# Altium integrated library Linear Technology PMIC-Switching Reg LTC1174-LTC3901.IntLib: 2647 symbols (part 223 of 310)
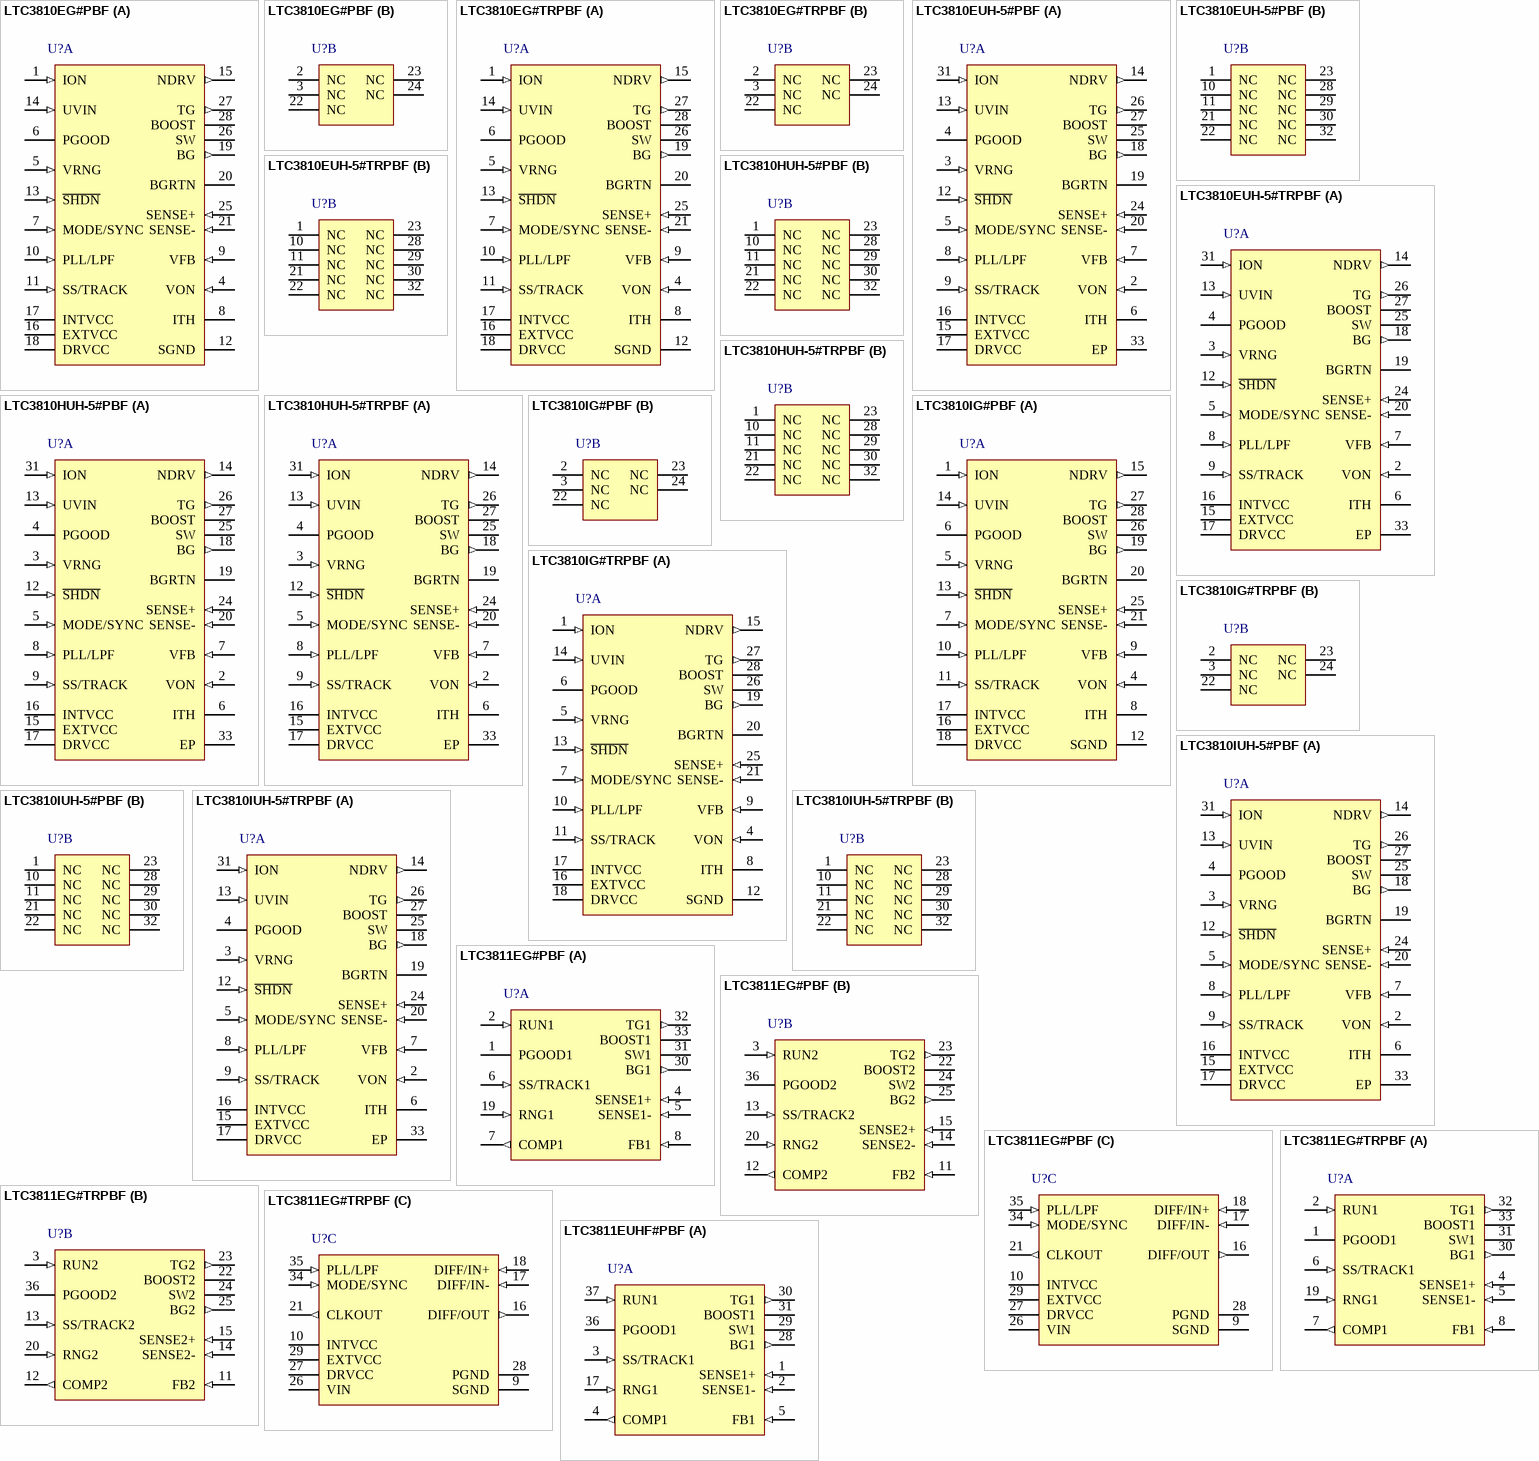
[diagram p246: symbols LTC3810EG#PBF to LTC3811EUHF#PBF]

## LTC3810IUH-5#TRPBF
designator U?
Current Mode Synchronous Switching Regulator Controller, 32-pin QFN (UH-32), -40 to 125 degC, Pb-Free, Tape and Reel; Manufacturer: Linear Technology; PartNumber: LTC3810IUH-5#TRPBF; Number of Outputs: 1; PackageReference: UH-32; PackageDescription: 32-Pin Plastic QFN, Body 5 x 5 mm, Pitch 0.5 mm; Supplier 1: Digi-Key; Supplier Part Number 1: LTC3810IUH-5#TRPBF-ND; RoHS: TRUE; Code_JEDEC: MO-220
footprint LT-UH-32_N (QFN, 32-Leads, Body 5.1x5.1mm, Pitch 0.5mm, Thermal Pad 3.45X3.45mm, IPC Medium Density)
footprint LT-UH-32_L (QFN, 32-Leads, Body 5.1x5.1mm, Pitch 0.5mm, Thermal Pad 3.45X3.45mm, IPC High Density)
footprint LT-UH-32_M (QFN, 32-Leads, Body 5.1x5.1mm, Pitch 0.5mm, Thermal Pad 3.45X3.45mm, IPC Low Density)
part A pins: 2 VON (in) "On-Time Voltage Input. Voltage trip point for the on-time comparator. Tying this pin to the output voltage or to an external resistive divider from the output makes the on-time proportional to VOUT. The comparator defaults (See Datasheet)", 3 VRNG (in) "Sense Voltage Limit Set. The voltage at this pin sets the nominal sense voltage at maximum output current and can be set from 0.5V to 2V by a resistive divider from INTVCC. The nominal sense voltage defaults to 95mV when (See Datasheet)", 4 PGOOD (oc) "Power Good Output. Open-drain logic output that is pulled to ground when the output voltage is not between +/-10% of the regulation point. The output voltage must be out of regulation for at least 120us before the power good (See Datasheet)", 5 MODE/SYNC (in) "Pulse Skip Mode Enable/Sync Pin. This multifunction pin provides pulse skip mode enable/ disable control and an external clock input to the phase detector. Pulling this pin below 0.8V or to an external logic-level (See Datasheet)", 6 ITH "Error Amplifier Compensation Point and Current Control Threshold. The current comparator threshold increases with this control voltage. The voltage ranges from 0V to 2.6V with 1.2V corresponding to zero sense voltage (zero (See Datasheet)", 7 VFB (in) "Feedback Input. Connect VFB through a resistor divider network to VOUT to set the output voltage.", 8 PLL/LPF (in) "The phase-locked loop’s lowpass filter is tied to this pin. The voltage at this pin defaults to 1.2V when the IC is not synchronized with an external clock at the MODE/SYNC pin.", 9 SS/TRACK (in) "Soft-Start/Tracking Input. For soft-start, a capacitor to ground at this pin sets the ramp rate of the output voltage (approximately 0.6s/uF). For coincident or ratiometric tracking, connect this pin to a resistive divider (See Datasheet)", 12 ~{SHDN} (in) "Shutdown Pin. Pulling this pin below 1.5V will shut down the LTC3810-5, turn off both of the external MOSFET switches and reduce the quiescent supply current to 240uA.", 13 UVIN (in) "UVLO Input. This pin is input to the internal UVLO and is compared to an internal 0.8V reference. An external resistor divider is connected to this pin and the input supply to program the undervoltage lockout voltage. When (See Datasheet)", 14 NDRV (out) "Drive Output for External Pass Device of the Linear Regulator for INTVCC. Connect to the gate of an external NMOS pass device and a pull-up resistor to the input voltage VIN.", 15 EXTVCC (power) "External Driver Supply Voltage. When this voltage exceeds 4.7V, an internal switch connects this pin to INTVCC through an LDO and turns off the exter nal MOSFET connected to NDRV, so that controller and gate drive are drawn (See Datasheet)", 16 INTVCC (power) "Main Supply Pin. All internal circuits except the output drivers are powered from this pin. INTVCC should be bypassed to ground (Pin 10) with at least a 0.1uF capacitor in close proximity to the LTC3810-5.", 17 DRVCC (power) "Driver Supply Pin. DRVCC supplies power to the BG output driver. This pin is normally connected to INTVCC. DRVCC should be bypassed to BGRTN (Pin 20) with a low ESR (X5R or better) 1uF-10uF capacitor in close proximity to (See Datasheet)", 18 BG (out) "Bottom Gate Drive. The BG pin drives the gate of the bottom N-channel synchronous switch MOSFET. This pin swings from BGRTN to DRVCC", 19 BGRTN "Bottom Gate Return. This pin connects to the source of the pulldown MOSFET in the BG driver and is normally connected to ground. Connecting a negative supply to this pin allows the synchronous MOSFET’s gate to be pulle(See Datasheet)", 20 SENSE- (in) "Current Sense Comparator Input. The (+) input to the current comparator is normally connected to SW unless using a sense resistor. The (-) input is used to accurately kelvin sense the bottom side of the sense resistor or (See Datasheet)", 24 SENSE+ (in) "Current Sense Comparator Input. The (+) input to the current comparator is normally connected to SW unless using a sense resistor. The (-) input is used to accurately kelvin sense the bottom side of the sense resistor or (See Datasheet)", 25 SW "Switch Node Connection to Inductor and Bootstrap Capacitor. The voltage swing at this pin is -0.7V (a Schottky diode (external) voltage drop) to VIN.", 26 TG (out) "Top Gate Drive. The TG pin drives the gate of the top N-channel synchronous switch MOSFET. The TG driver draws power from the BOOST pin and returns to the SW pin, providing true floating drive to the top MOSFET.", 27 BOOST "Top Gate Driver Supply. The BOOST pin supplies power to the floating TG driver. BOOST should be bypassed to SW with a low ESR (X5R or better) 0.1uF capacitor. An additional fast recovery Schottky diode from DRVCC to the (See Datasheet)", 31 ION (in) "On-Time Current Input. Tie a resistor from VIN to this pin to set the one-shot timer current and thereby set the switching frequency.", 33 EP (power) "Signal Ground. All smallsignal components should connect to this ground and eventually connect to PGND at one point."
part B pins: 1 NC, 10 NC, 11 NC, 21 NC, 22 NC, 23 NC, 28 NC, 29 NC, 30 NC, 32 NC

## LTC3811EG#PBF
designator U?
High Speed Dual, Multiphase Step-Down DC/DC Controller, 36-pin SOP (G-36), -40 to 85 degC, Pb-Free; Manufacturer: Linear Technology; PartNumber: LTC3811EG#PBF; Number of Outputs: 2; PackageReference: G-36; PackageDescription: 36-Pin Plastic SSOP, Body 12.8 x 5.3 mm, Pitch 0.65 mm; Supplier 1: Digi-Key; Supplier Part Number 1: LTC3811EG#PBF-ND; RoHS: TRUE
footprint LT-G-36_N (SOP, 36-Leads, Body 13.1x5.6mm, Pitch 0.65mm, IPC Medium Density)
footprint LT-G-36_L (SOP, 36-Leads, Body 13.1x5.6mm, Pitch 0.65mm, IPC High Density)
footprint LT-G-36_M (SOP, 36-Leads, Body 13.1x5.6mm, Pitch 0.65mm, IPC Low Density)
part A pins: 1 PGOOD1 (oc) "An Open-Drain NMOS Power Good Output. This output turns on, pulling down the PGOOD pin, when the FB voltage falls out of a +/-10% regulation window. The PGOOD monitor circuit contains a 130us nuisance filter to prevent short (See Datasheet)", 2 RUN1 (in) "On/Off Input Pin for Each Controller", 4 SENSE1+ (in) "Positive Inputs to the Current Comparators and Voltage Positioning gm Amplifier. The COMP pin voltage programs the current comparator offset in order to set the peak current trip threshold. The LTC3811 is capable of sensing (See Datasheet)", 5 SENSE1- (in) "Negative Inputs to the Current Comparators and Voltage Positioning gm Amplifier. The common mode input voltage range for the current comparators is 0V to 3.5V", 6 SS/TRACK1 (in) "Combined Soft-Start and Tracking Inputs. For soft-start operation, connecting a capacitor from this pin to ground will control the voltage ramp at the output of the power supply. An internal 2.5uA current source will charge (See Datasheet)", 7 COMP1 (out) "Error Amplifier Output Voltages. The error amplifiers in the LTC3811 are high bandwidth, low offset true operational amplifiers that have low output impedance. As a result, the outputs of two active error amplifiers cannot (See Datasheet)", 8 FB1 (in) "Error Amplifier Feedback Input Pins. The error amplifiers in the LTC3811 are high bandwidth, low offset true operational amplifiers. If differential remote sensing is not used, the FB pin should be connected to a resistor (See Datasheet)", 19 RNG1 (in) "The voltage at this pin programs the sense voltage range for peak current mode control. Connecting this pin to SGND programs a peak sense voltage of 24mV and connecting it to INTVCC programs a peak sense voltage   of 50mV. (See Datasheet)", 30 BG1 (out) "High Current Gate Driver Outputs for the N-Channel Lower Power MOSFETs", 31 SW1 "Bootstrapped Supply Return Paths for the Topside Gate Drivers, Connected to the Sources of the Upper Power MOSFETs.", 32 TG1 (out) "High Current Gate Driver Outputs for the N-Channel Upper Power MOSFETs.", 33 BOOST1 "Bootstrapped Supply Inputs to the Topside Floating Drivers. A low ESR (X5R or better) ceramic bypass capacitor should be connected between the BOOST pin and the SW pin as close as possible to the IC."
part B pins: 3 RUN2 (in) "On/Off Input Pin for Each Controller", 11 FB2 (in) "Error Amplifier Feedback Input Pins. The error amplifiers in the LTC3811 are high bandwidth, low offset true operational amplifiers. If differential remote sensing is not used, the FB pin should be connected to a resistor (See Datasheet)", 12 COMP2 (out) "Error Amplifier Output Voltages. The error amplifiers in the LTC3811 are high bandwidth, low offset true operational Amplifiers that have low output impedance. As a result, the outputs of two active error amplifiers cannot (See Datasheet)", 13 SS/TRACK2 (in) "Combined Soft-Start and Tracking Inputs. For soft-start operation, connecting a capacitor from this pin to ground will control the voltage ramp at the output of the power supply. An internal 2.5uA current source will charge (See Datasheet)", 14 SENSE2- (in) "Negative Inputs to the Current Comparators and Voltage Positioning gm Amplifier. The common mode input voltage range for the current comparators is 0V to 3.5V", 15 SENSE2+ (in) "Positive Inputs to the Current Comparators and Voltage Positioning gm Amplifier. The COMP pin voltage programs the current comparator offset in order to set the peak current trip threshold. The LTC3811 is capable of sensing (See Datasheet)", 20 RNG2 (in) "The voltage at this pin programs the sense voltage range for peak current mode control. Connecting this pin to SGND programs a peak sense voltage of 24mV and connecting it to INTVCC programs a peak sense voltage   of 50mV. (See Datasheet)", 22 BOOST2 "Bootstrapped Supply Inputs to the Topside Floating Drivers. A low ESR (X5R or better) ceramic bypass capacitor should be connected between the BOOST pin and the SW pin as close as possible to the IC.", 23 TG2 (out) "High Current Gate Driver Outputs for the N-Channel Upper Power MOSFETs.", 24 SW2 "Bootstrapped Supply Return Paths for the Topside Gate Drivers, Connected to the Sources of the Upper Power MOSFETs.", 25 BG2 (out) "High Current Gate Driver Outputs for the N-Channel Lower Power MOSFETs", 36 PGOOD2 (oc) "An Open-Drain NMOS Power Good Output. This output turns on, pulling down the PGOOD pin, when the FB voltage falls out of a +/-10% regulation window. The PGOOD monitor circuit contains a 130us nuisance filter to prevent short (See Datasheet)"
part C pins: 9 SGND (power) "Signal Ground Pin for the IC. Common to both controllers, this pin should be connected to the negative terminals of the VOUT and INTVCC decoupling capacitors and should be routed separately from any high current paths on the (See Datasheet)", 10 INTVCC (power) "Supply Pin for All of the Internal Low Voltage Analog and Digital Control Circuitry, Electrically Isolated from the DRVCC Pin. The INTVCC supply is normally derived by connecting a low value resistor (1ohm) from the output (See Datasheet)", 16 DIFF/OUT (out) "Remote Sense Differential Amplifier Output Voltage, Configured for a Noninverting Gain of One. The voltage at the DIFF/OUT pin is normally connected through an external resistor divider to the FB pin of one channel. The (See Datasheet)", 17 DIFF/IN- (in) "Remote Sense Differential Amplifier Negative Input. This pin is normally connected to the negative terminal of the decoupling capacitor at the remote load. The DIFF/IN+ and DIFF/IN- PCB traces should be routed as close as (See Datasheet)", 18 DIFF/IN+ (in) "Remote Sense Differential Amplifier Positive Input. A low offset, high bandwidth operational Amplifier is configured with four precision 80k resistors for a noninverting gain of one. This pin is normally connected to the (See Datasheet)", 21 CLKOUT (out) "A Digital Output Used for Daisy-Chaining Multiple LTC3811 ICs in Multiphase Systems. The PHASEMODE pin voltage controls the phase relationship between the channel 1 TG signal and CLKOUT", 26 VIN (power) "Main Supply Input. A low ESR ceramic bypass capacitor should be connected between this pin and SGND.", 27 DRVCC (power) "Output of the Internal 6V Low Dropout Regulator (LDO), Supply Pin for the Bottom Gate Drivers and Output of the PMOS EXTVCC Switch. A low ESR (X5R or better) 4.7uF ceramic bypass capacitor should be connected between the (See Datasheet)", 28 PGND (power) "Power Supply Return Path for the Bottom Side Gate Drivers, Connected to the Sources of the Lower Power MOSFETs. PGND should also be connected to the negative terminal of the DRVCC decoupling capacitor as close as possible to (See Datasheet)", 29 EXTVCC (power) "External Power Supply Input to an Internal PMOS Power Switch Connected Between EXTVCC (Drain) and DRVCC (Source). This pin allows an external supply to be used for the high current gate drivers, thereby reducing power (See Datasheet)", 34 MODE/SYNC (in) "Mode Control and PLL Synchronization Input. This pin programs the operating mode and serves as the sync input to the internal phase-lock loop (PLL). Connecting this pin to INTVCC forces continuous operation (regardless of (See Datasheet)", 35 PLL/LPF (in) "Frequency Set and PLL Lowpass Filter Input. When not synchronized, this pin can be used to program the operating frequency. Connecting this pin to SGND forces 250kHz operation and connecting it to INTVCC forces 750kHz (See Datasheet)"

## LTC3811EG#TRPBF
designator U?
High Speed Dual, Multiphase Step-Down DC/DC Controller, 36-pin SOP (G-36), -40 to 85 degC, Pb-Free, Tape and Reel; Manufacturer: Linear Technology; PartNumber: LTC3811EG#TRPBF; Number of Outputs: 2; PackageReference: G-36; PackageDescription: 36-Pin Plastic SSOP, Body 12.8 x 5.3 mm, Pitch 0.65 mm; Supplier 1: Digi-Key; Supplier Part Number 1: LTC3811EG#TRPBF-ND; RoHS: TRUE
footprint LT-G-36_N (SOP, 36-Leads, Body 13.1x5.6mm, Pitch 0.65mm, IPC Medium Density)
footprint LT-G-36_L (SOP, 36-Leads, Body 13.1x5.6mm, Pitch 0.65mm, IPC High Density)
footprint LT-G-36_M (SOP, 36-Leads, Body 13.1x5.6mm, Pitch 0.65mm, IPC Low Density)
part A pins: 1 PGOOD1 (oc) "An Open-Drain NMOS Power Good Output. This output turns on, pulling down the PGOOD pin, when the FB voltage falls out of a +/-10% regulation window. The PGOOD monitor circuit contains a 130us nuisance filter to prevent short (See Datasheet)", 2 RUN1 (in) "On/Off Input Pin for Each Controller", 4 SENSE1+ (in) "Positive Inputs to the Current Comparators and Voltage Positioning gm Amplifier. The COMP pin voltage programs the current comparator offset in order to set the peak current trip threshold. The LTC3811 is capable of sensing (See Datasheet)", 5 SENSE1- (in) "Negative Inputs to the Current Comparators and Voltage Positioning gm Amplifier. The common mode input voltage range for the current comparators is 0V to 3.5V", 6 SS/TRACK1 (in) "Combined Soft-Start and Tracking Inputs. For soft-start operation, connecting a capacitor from this pin to ground will control the voltage ramp at the output of the power supply. An internal 2.5uA current source will charge (See Datasheet)", 7 COMP1 (out) "Error Amplifier Output Voltages. The error amplifiers in the LTC3811 are high bandwidth, low offset true operational amplifiers that have low output impedance. As a result, the outputs of two active error amplifiers cannot (See Datasheet)", 8 FB1 (in) "Error Amplifier Feedback Input Pins. The error amplifiers in the LTC3811 are high bandwidth, low offset true operational amplifiers. If differential remote sensing is not used, the FB pin should be connected to a resistor (See Datasheet)", 19 RNG1 (in) "The voltage at this pin programs the sense voltage range for peak current mode control. Connecting this pin to SGND programs a peak sense voltage of 24mV and connecting it to INTVCC programs a peak sense voltage   of 50mV. (See Datasheet)", 30 BG1 (out) "High Current Gate Driver Outputs for the N-Channel Lower Power MOSFETs", 31 SW1 "Bootstrapped Supply Return Paths for the Topside Gate Drivers, Connected to the Sources of the Upper Power MOSFETs.", 32 TG1 (out) "High Current Gate Driver Outputs for the N-Channel Upper Power MOSFETs.", 33 BOOST1 "Bootstrapped Supply Inputs to the Topside Floating Drivers. A low ESR (X5R or better) ceramic bypass capacitor should be connected between the BOOST pin and the SW pin as close as possible to the IC."
part B pins: 3 RUN2 (in) "On/Off Input Pin for Each Controller", 11 FB2 (in) "Error Amplifier Feedback Input Pins. The error amplifiers in the LTC3811 are high bandwidth, low offset true operational amplifiers. If differential remote sensing is not used, the FB pin should be connected to a resistor (See Datasheet)", 12 COMP2 (out) "Error Amplifier Output Voltages. The error amplifiers in the LTC3811 are high bandwidth, low offset true operational Amplifiers that have low output impedance. As a result, the outputs of two active error amplifiers cannot (See Datasheet)", 13 SS/TRACK2 (in) "Combined Soft-Start and Tracking Inputs. For soft-start operation, connecting a capacitor from this pin to ground will control the voltage ramp at the output of the power supply. An internal 2.5uA current source will charge (See Datasheet)", 14 SENSE2- (in) "Negative Inputs to the Current Comparators and Voltage Positioning gm Amplifier. The common mode input voltage range for the current comparators is 0V to 3.5V", 15 SENSE2+ (in) "Positive Inputs to the Current Comparators and Voltage Positioning gm Amplifier. The COMP pin voltage programs the current comparator offset in order to set the peak current trip threshold. The LTC3811 is capable of sensing (See Datasheet)", 20 RNG2 (in) "The voltage at this pin programs the sense voltage range for peak current mode control. Connecting this pin to SGND programs a peak sense voltage of 24mV and connecting it to INTVCC programs a peak sense voltage   of 50mV. (See Datasheet)", 22 BOOST2 "Bootstrapped Supply Inputs to the Topside Floating Drivers. A low ESR (X5R or better) ceramic bypass capacitor should be connected between the BOOST pin and the SW pin as close as possible to the IC.", 23 TG2 (out) "High Current Gate Driver Outputs for the N-Channel Upper Power MOSFETs.", 24 SW2 "Bootstrapped Supply Return Paths for the Topside Gate Drivers, Connected to the Sources of the Upper Power MOSFETs.", 25 BG2 (out) "High Current Gate Driver Outputs for the N-Channel Lower Power MOSFETs", 36 PGOOD2 (oc) "An Open-Drain NMOS Power Good Output. This output turns on, pulling down the PGOOD pin, when the FB voltage falls out of a +/-10% regulation window. The PGOOD monitor circuit contains a 130us nuisance filter to prevent short (See Datasheet)"
part C pins: 9 SGND (power) "Signal Ground Pin for the IC. Common to both controllers, this pin should be connected to the negative terminals of the VOUT and INTVCC decoupling capacitors and should be routed separately from any high current paths on the (See Datasheet)", 10 INTVCC (power) "Supply Pin for All of the Internal Low Voltage Analog and Digital Control Circuitry, Electrically Isolated from the DRVCC Pin. The INTVCC supply is normally derived by connecting a low value resistor (1ohm) from the output (See Datasheet)", 16 DIFF/OUT (out) "Remote Sense Differential Amplifier Output Voltage, Configured for a Noninverting Gain of One. The voltage at the DIFF/OUT pin is normally connected through an external resistor divider to the FB pin of one channel. The (See Datasheet)", 17 DIFF/IN- (in) "Remote Sense Differential Amplifier Negative Input. This pin is normally connected to the negative terminal of the decoupling capacitor at the remote load. The DIFF/IN+ and DIFF/IN- PCB traces should be routed as close as (See Datasheet)", 18 DIFF/IN+ (in) "Remote Sense Differential Amplifier Positive Input. A low offset, high bandwidth operational Amplifier is configured with four precision 80k resistors for a noninverting gain of one. This pin is normally connected to the (See Datasheet)", 21 CLKOUT (out) "A Digital Output Used for Daisy-Chaining Multiple LTC3811 ICs in Multiphase Systems. The PHASEMODE pin voltage controls the phase relationship between the channel 1 TG signal and CLKOUT", 26 VIN (power) "Main Supply Input. A low ESR ceramic bypass capacitor should be connected between this pin and SGND.", 27 DRVCC (power) "Output of the Internal 6V Low Dropout Regulator (LDO), Supply Pin for the Bottom Gate Drivers and Output of the PMOS EXTVCC Switch. A low ESR (X5R or better) 4.7uF ceramic bypass capacitor should be connected between the (See Datasheet)", 28 PGND (power) "Power Supply Return Path for the Bottom Side Gate Drivers, Connected to the Sources of the Lower Power MOSFETs. PGND should also be connected to the negative terminal of the DRVCC decoupling capacitor as close as possible to (See Datasheet)", 29 EXTVCC (power) "External Power Supply Input to an Internal PMOS Power Switch Connected Between EXTVCC (Drain) and DRVCC (Source). This pin allows an external supply to be used for the high current gate drivers, thereby reducing power (See Datasheet)", 34 MODE/SYNC (in) "Mode Control and PLL Synchronization Input. This pin programs the operating mode and serves as the sync input to the internal phase-lock loop (PLL). Connecting this pin to INTVCC forces continuous operation (regardless of (See Datasheet)", 35 PLL/LPF (in) "Frequency Set and PLL Lowpass Filter Input. When not synchronized, this pin can be used to program the operating frequency. Connecting this pin to SGND forces 250kHz operation and connecting it to INTVCC forces 750kHz (See Datasheet)"

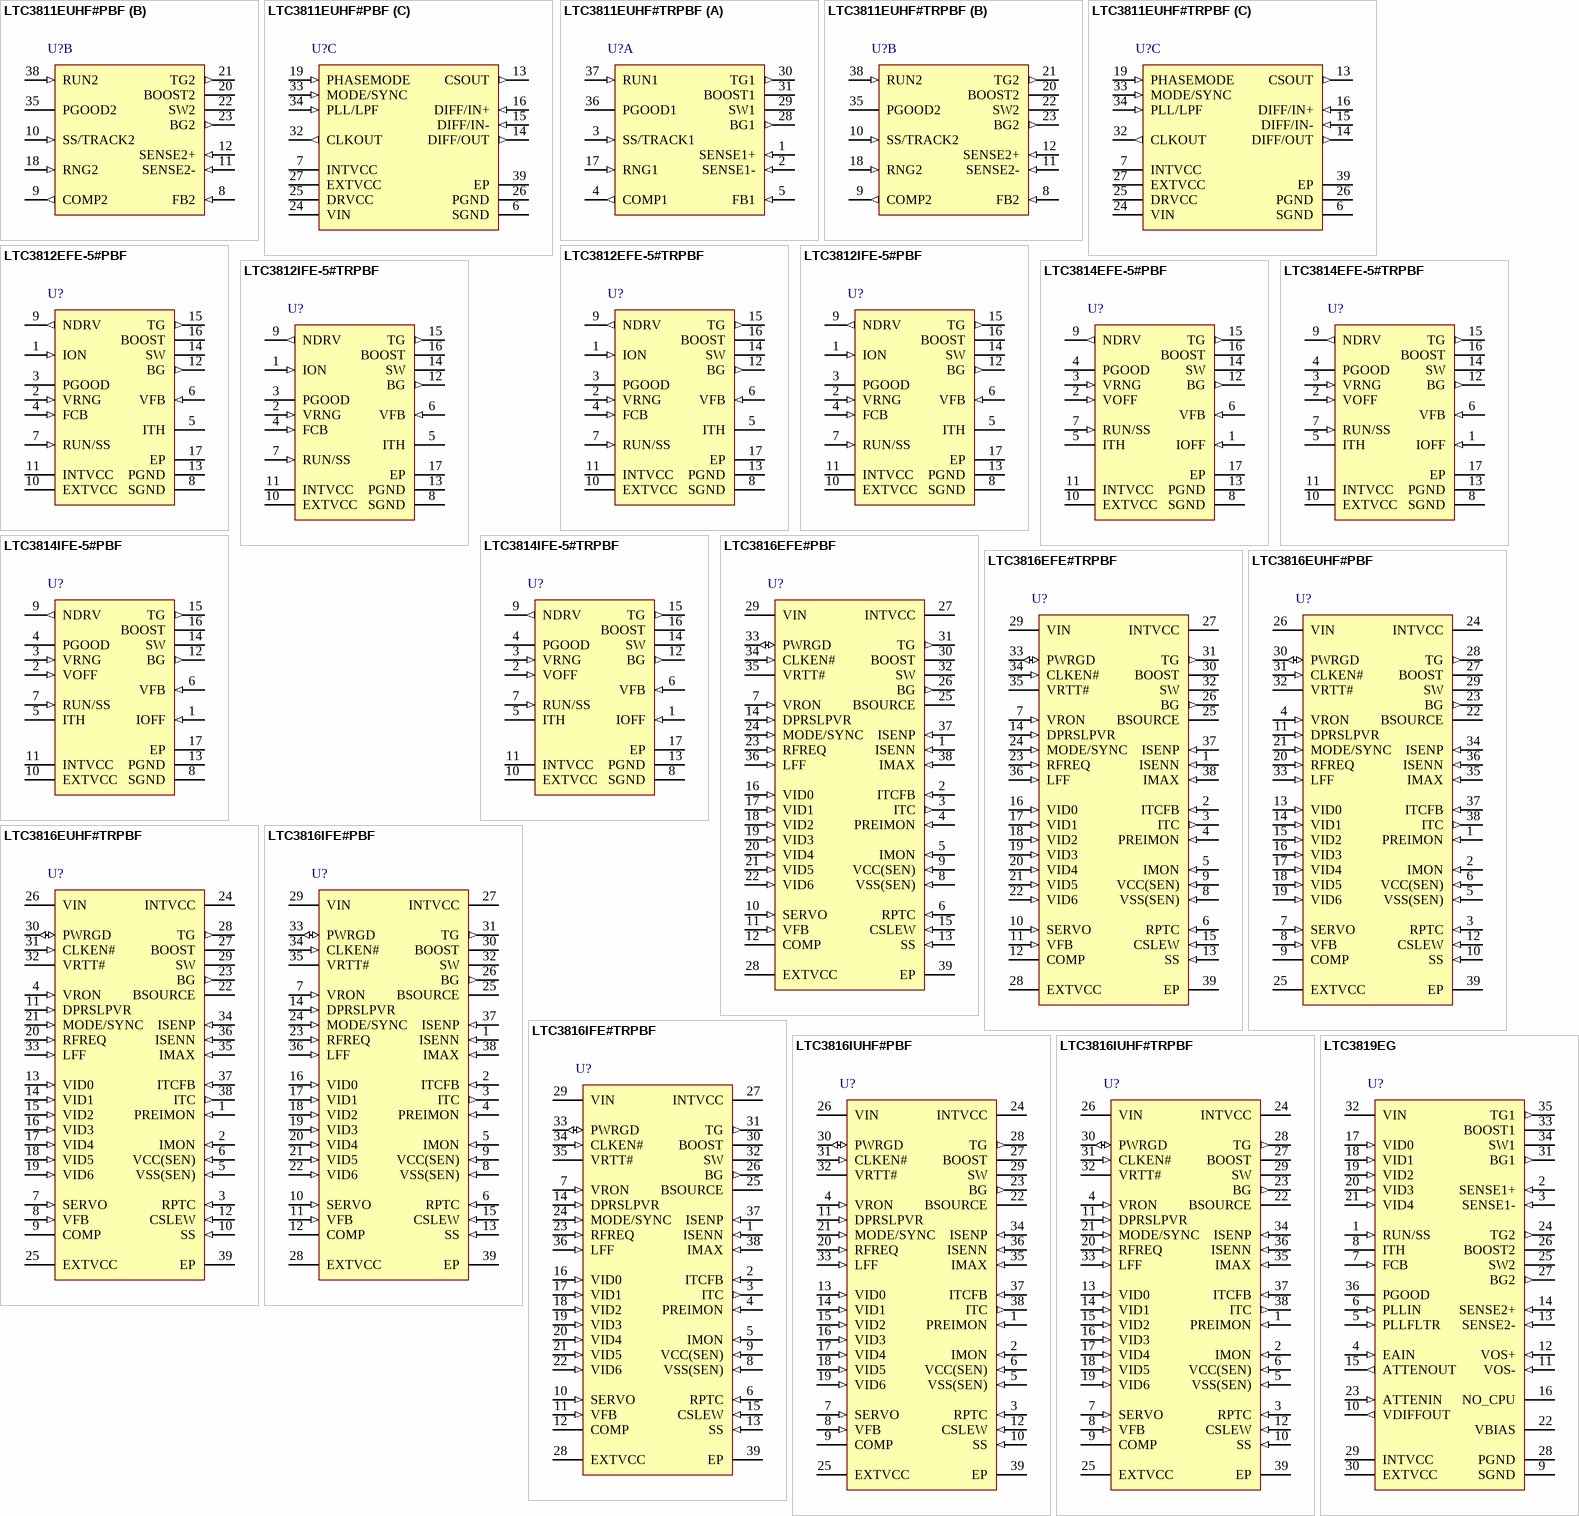
[diagram p79: symbols LTC3811EUHF#PBF to LTC3819EG]

## LTC3811EUHF#PBF
designator U?
High Speed Dual, Multiphase Step-Down DC/DC Controller, 38-pin QFN (UHF-38), -40 to 85 degC, Pb-Free; Manufacturer: Linear Technology; PartNumber: LTC3811EUHF#PBF; Number of Outputs: 2; PackageReference: UHF-38; PackageDescription: 38-Pin Plastic QFN, Body 7 x 5 mm, Pitch 0.5 mm; Supplier 1: Digi-Key; Supplier Part Number 1: LTC3811EUHF#PBF-ND; RoHS: TRUE; Code_JEDEC: MO-220
footprint LT-UHF-38_N (QFN, 38-Leads, Body 7.1x5.1mm, Pitch 0.5mm, Thermal Pad 3.15x5.15mm, IPC Medium Density)
footprint LT-UHF-38_L (QFN, 38-Leads, Body 7.1x5.1mm, Pitch 0.5mm, Thermal Pad 3.15x5.15mm, IPC High Density)
footprint LT-UHF-38_M (QFN, 38-Leads, Body 7.1x5.1mm, Pitch 0.5mm, Thermal Pad 3.15x5.15mm, IPC Low Density)
part A pins: 1 SENSE1+ (in) "Positive Inputs to the Current Comparators and Voltage Positioning gm Ampli?er. The COMP pin voltage programs the current comparator offset in order to set the peak current trip threshold. The LTC3811 is capable of sensin(See Datasheet)", 2 SENSE1- (in) "Negative Inputs to the Current Comparators and Voltage Positioning gm Ampli?er. The common mode input voltage range for the current comparators is 0V to 3.5V.", 3 SS/TRACK1 (in) "Combined Soft-Start and Tracking Inputs. For soft-start operation, connecting a capacitor from this pin to ground will control the voltage ramp at the output of the power supply. An internal 2.5uA current source will charge (See Datasheet)", 4 COMP1 (out) "Error Ampli?er Output Voltages. The error ampli?ers in the LTC3811 are high bandwidth, low offset true operational ampli?ers that have low output impedance. As a result, the outputs of two active error ampl(See Datasheet)", 5 FB1 (in) "Error Ampli?er Feedback Input Pins. The error ampli?ers in the LTC3811 are high bandwidth, low offset true operational ampli?ers. If differential remote sensing is not used, the FB pin should be connected to a res(See Datasheet)", 17 RNG1 (in) "The voltage at this pin programs the sense voltage range for peak current mode control. Connecting this pin to SGND programs a peak sense voltage of 24mV and connecting it to INTVCC programs a peak sense voltage of 50mV. (See Datasheet)", 28 BG1 (out) "High Current Gate Driver Outputs for the N-Channel Lower Power MOSFETs.", 29 SW1 "Bootstrapped Supply Return Paths for the Topside Gate Drivers, Connected to the Sources of the Upper Power MOSFETs.", 30 TG1 (out) "High Current Gate Driver Outputs for the N-Channel Upper Power MOSFETs.", 31 BOOST1 "Bootstrapped Supply Inputs to the Topside Floating Drivers. A low ESR (X5R or better) ceramic bypass capacitor should be connected between the BOOST pin and the SW pin as close as possible to the IC.", 36 PGOOD1 (oc) "An Open-Drain NMOS Power Good Output. This output turns on, pulling down the PGOOD pin, when the FB voltage falls out of a +/-10% regulation window. The PGOOD monitor circuit contains a 130us nuisance ?lter to preven(See Datasheet)", 37 RUN1 (in) "On/Off Input Pin for Each Controller."
part B pins: 8 FB2 (in) "Error Ampli?er Feedback Input Pins. The error ampli?ers in the LTC3811 are high bandwidth, low offset true operational ampli?ers. If differential remote sensing is not used, the FB pin should be connected to a res(See Datasheet)", 9 COMP2 (out) "Error Ampli?er Output Voltages. The error ampli?ers in the LTC3811 are high bandwidth, low offset true operational ampli?ers that have low output impedance. As a result, the outputs of two active error ampl(See Datasheet)", 10 SS/TRACK2 (in) "Combined Soft-Start and Tracking Inputs. For soft-start operation, connecting a capacitor from this pin to ground will control the voltage ramp at the output of the power supply. An internal 2.5uA current source will charge (See Datasheet)", 11 SENSE2- (in) "Negative Inputs to the Current Comparators and Voltage Positioning gm Ampli?er. The common mode input voltage range for the current comparators is 0V to 3.5V.", 12 SENSE2+ (in) "Positive Inputs to the Current Comparators and Voltage Positioning gm Ampli?er. The COMP pin voltage programs the current comparator offset in order to set the peak current trip threshold. The LTC3811 is capable of sensin(See Datasheet)", 18 RNG2 (in) "The voltage at this pin programs the sense voltage range for peak current mode control. Connecting this pin to SGND programs a peak sense voltage of 24mV and connecting it to INTVCC programs a peak sense voltage of 50mV. (See Datasheet)", 20 BOOST2 "Bootstrapped Supply Inputs to the Topside Floating Drivers. A low ESR (X5R or better) ceramic bypass capacitor should be connected between the BOOST pin and the SW pin as close as possible to the IC.", 21 TG2 (out) "High Current Gate Driver Outputs for the N-Channel Upper Power MOSFETs.", 22 SW2 "Bootstrapped Supply Return Paths for the Topside Gate Drivers, Connected to the Sources of the Upper Power MOSFETs.", 23 BG2 (out) "High Current Gate Driver Outputs for the N-Channel Lower Power MOSFETs.", 35 PGOOD2 (oc) "An Open-Drain NMOS Power Good Output. This output turns on, pulling down the PGOOD pin, when the FB voltage falls out of a +/-10% regulation window. The PGOOD monitor circuit contains a 130us nuisance ?lter to preven(See Datasheet)", 38 RUN2 (in) "On/Off Input Pin for Each Controller."
part C pins: 6 SGND (power) "Signal Ground Pin for the IC. Common to both controllers, this pin should be connected to the negative terminals of the VOUT and INTVCC decoupling capacitors and should be routed separately from any high current paths on the (See Datasheet)", 7 INTVCC (power) "Supply Pin for All of the Internal Low Voltage Analog and Digital Control Circuitry, Electrically Isolated from the DRVCC Pin. The INTVCC supply is normally derived by connecting a low value resistor (1ohm) from the output (See Datasheet)", 13 CSOUT (out) "Output of the Voltage Positioning gm Ampli?er. This pin allows the user to program the amount of voltage droop in the output voltage at high load current. The output of the voltage positioning gm ampli?er i(See Datasheet)", 14 DIFF/OUT (out) "Remote Sense Differential Ampli?er Output Voltage, Con?gured for a Noninverting Gain of One. The voltage at the DIFF/OUT pin is normally connected through an external resistor divider to the FB pin of one channel. (See Datasheet)", 15 DIFF/IN- (in) "Remote Sense Differential Ampli?er Negative  Input. This pin is normally connected to the negative  terminal of the decoupling capacitor at the remote load.  The DIFF/IN+  and DIFF/IN-  PCB traces should be routed  a(See Datasheet)", 16 DIFF/IN+ (in) "Remote Sense Differential Ampli?er Positive  Input. A low offset, high bandwidth operational ampli?er  is con? gured with four precision 80k resistors for a noninverting gain of one. This pin is normally connect(See Datasheet)", 19 PHASEMODE (in) "The PHASEMODE pin voltage programs the phase relationship between the channel 1 and channel 2 rising TG signals, as well as the phase relationship between the channel 1 TG signal and CLKOUT.", 24 VIN (power) "Main Supply Input. A low ESR ceramic bypass capacitor should be connected between this pin and SGND.", 25 DRVCC (power) "Output of the Internal 6V Low Dropout Regulator (LDO), Supply Pin for the Bottom Gate Drivers and Output of the PMOS EXTVCC Switch. A low ESR (X5R or better) 4.7uF ceramic bypass capacitor should be connected between the (See Datasheet)", 26 PGND (power) "Power Supply Return Path for the Bottom Side Gate Drivers, Connected to the Sources of the Lower Power MOSFETs. PGND should also be connected to the negative terminal of the DRVCC decoupling capacitor as close as possible to (See Datasheet)", 27 EXTVCC (power) "External Power Supply Input to an Internal PMOS Power Switch Connected Between EXTVCC (Drain) and DRVCC (Source). This pin allows an external supply to be used for the high current gate drivers, thereby reducing power (See Datasheet)", 32 CLKOUT (out) "A Digital Output Used for Daisy-Chaining Multiple  LTC3811 ICs in Multiphase Systems. The PHASEMODE  pin voltage controls the phase relationship between the  channel 1 TG signal and CLKOUT", 33 MODE/SYNC (in) "Mode Control and PLL Synchronization Input. This pin programs the operatingmode and serves as the sync input to the internal phase-lock loop (PLL). Connecting this pin to INTVCC forces continuous operation (regardless of the (See Datasheet)", 34 PLL/LPF (in) "Frequency Set and PLL Lowpass Filter Input. When not synchronized, this pin can be used to program the operating frequency. Connecting this pin to SGND forces 250kHz operation and connecting it to INTVCC forces 750kHz (See Datasheet)", 39 EP (power) "The Exposed Pad of the QFN Leadframe is PGND."

## LTC3811EUHF#TRPBF
designator U?
High Speed Dual, Multiphase Step-Down DC/DC Controller, 38-pin QFN (UHF-38), -40 to 85 degC, Pb-Free, Tape and Reel; Manufacturer: Linear Technology; PartNumber: LTC3811EUHF#TRPBF; Number of Outputs: 2; PackageReference: UHF-38; PackageDescription: 38-Pin Plastic QFN, Body 7 x 5 mm, Pitch 0.5 mm; Supplier 1: Digi-Key; Supplier Part Number 1: LTC3811EUHF#TRPBF-ND; RoHS: TRUE; Code_JEDEC: MO-220
footprint LT-UHF-38_N (QFN, 38-Leads, Body 7.1x5.1mm, Pitch 0.5mm, Thermal Pad 3.15x5.15mm, IPC Medium Density)
footprint LT-UHF-38_L (QFN, 38-Leads, Body 7.1x5.1mm, Pitch 0.5mm, Thermal Pad 3.15x5.15mm, IPC High Density)
footprint LT-UHF-38_M (QFN, 38-Leads, Body 7.1x5.1mm, Pitch 0.5mm, Thermal Pad 3.15x5.15mm, IPC Low Density)
part A pins: 1 SENSE1+ (in) "Positive Inputs to the Current Comparators and Voltage Positioning gm Ampli?er. The COMP pin voltage programs the current comparator offset in order to set the peak current trip threshold. The LTC3811 is capable of sensin(See Datasheet)", 2 SENSE1- (in) "Negative Inputs to the Current Comparators and Voltage Positioning gm Ampli?er. The common mode input voltage range for the current comparators is 0V to 3.5V.", 3 SS/TRACK1 (in) "Combined Soft-Start and Tracking Inputs. For soft-start operation, connecting a capacitor from this pin to ground will control the voltage ramp at the output of the power supply. An internal 2.5uA current source will charge (See Datasheet)", 4 COMP1 (out) "Error Ampli?er Output Voltages. The error ampli?ers in the LTC3811 are high bandwidth, low offset true operational ampli?ers that have low output impedance. As a result, the outputs of two active error ampl(See Datasheet)", 5 FB1 (in) "Error Ampli?er Feedback Input Pins. The error ampli?ers in the LTC3811 are high bandwidth, low offset true operational ampli?ers. If differential remote sensing is not used, the FB pin should be connected to a res(See Datasheet)", 17 RNG1 (in) "The voltage at this pin programs the sense voltage range for peak current mode control. Connecting this pin to SGND programs a peak sense voltage of 24mV and connecting it to INTVCC programs a peak sense voltage of 50mV. (See Datasheet)", 28 BG1 (out) "High Current Gate Driver Outputs for the N-Channel Lower Power MOSFETs.", 29 SW1 "Bootstrapped Supply Return Paths for the Topside Gate Drivers, Connected to the Sources of the Upper Power MOSFETs.", 30 TG1 (out) "High Current Gate Driver Outputs for the N-Channel Upper Power MOSFETs.", 31 BOOST1 "Bootstrapped Supply Inputs to the Topside Floating Drivers. A low ESR (X5R or better) ceramic bypass capacitor should be connected between the BOOST pin and the SW pin as close as possible to the IC.", 36 PGOOD1 (oc) "An Open-Drain NMOS Power Good Output. This output turns on, pulling down the PGOOD pin, when the FB voltage falls out of a +/-10% regulation window. The PGOOD monitor circuit contains a 130us nuisance ?lter to preven(See Datasheet)", 37 RUN1 (in) "On/Off Input Pin for Each Controller."
part B pins: 8 FB2 (in) "Error Ampli?er Feedback Input Pins. The error ampli?ers in the LTC3811 are high bandwidth, low offset true operational ampli?ers. If differential remote sensing is not used, the FB pin should be connected to a res(See Datasheet)", 9 COMP2 (out) "Error Ampli?er Output Voltages. The error ampli?ers in the LTC3811 are high bandwidth, low offset true operational ampli?ers that have low output impedance. As a result, the outputs of two active error ampl(See Datasheet)", 10 SS/TRACK2 (in) "Combined Soft-Start and Tracking Inputs. For soft-start operation, connecting a capacitor from this pin to ground will control the voltage ramp at the output of the power supply. An internal 2.5uA current source will charge (See Datasheet)", 11 SENSE2- (in) "Negative Inputs to the Current Comparators and Voltage Positioning gm Ampli?er. The common mode input voltage range for the current comparators is 0V to 3.5V.", 12 SENSE2+ (in) "Positive Inputs to the Current Comparators and Voltage Positioning gm Ampli?er. The COMP pin voltage programs the current comparator offset in order to set the peak current trip threshold. The LTC3811 is capable of sensin(See Datasheet)", 18 RNG2 (in) "The voltage at this pin programs the sense voltage range for peak current mode control. Connecting this pin to SGND programs a peak sense voltage of 24mV and connecting it to INTVCC programs a peak sense voltage of 50mV. (See Datasheet)", 20 BOOST2 "Bootstrapped Supply Inputs to the Topside Floating Drivers. A low ESR (X5R or better) ceramic bypass capacitor should be connected between the BOOST pin and the SW pin as close as possible to the IC.", 21 TG2 (out) "High Current Gate Driver Outputs for the N-Channel Upper Power MOSFETs.", 22 SW2 "Bootstrapped Supply Return Paths for the Topside Gate Drivers, Connected to the Sources of the Upper Power MOSFETs.", 23 BG2 (out) "High Current Gate Driver Outputs for the N-Channel Lower Power MOSFETs.", 35 PGOOD2 (oc) "An Open-Drain NMOS Power Good Output. This output turns on, pulling down the PGOOD pin, when the FB voltage falls out of a +/-10% regulation window. The PGOOD monitor circuit contains a 130us nuisance ?lter to preven(See Datasheet)", 38 RUN2 (in) "On/Off Input Pin for Each Controller."
part C pins: 6 SGND (power) "Signal Ground Pin for the IC. Common to both controllers, this pin should be connected to the negative terminals of the VOUT and INTVCC decoupling capacitors and should be routed separately from any high current paths on the (See Datasheet)", 7 INTVCC (power) "Supply Pin for All of the Internal Low Voltage Analog and Digital Control Circuitry, Electrically Isolated from the DRVCC Pin. The INTVCC supply is normally derived by connecting a low value resistor (1ohm) from the output (See Datasheet)", 13 CSOUT (out) "Output of the Voltage Positioning gm Ampli?er. This pin allows the user to program the amount of voltage droop in the output voltage at high load current. The output of the voltage positioning gm ampli?er i(See Datasheet)", 14 DIFF/OUT (out) "Remote Sense Differential Ampli?er Output Voltage, Con?gured for a Noninverting Gain of One. The voltage at the DIFF/OUT pin is normally connected through an external resistor divider to the FB pin of one channel. (See Datasheet)", 15 DIFF/IN- (in) "Remote Sense Differential Ampli?er Negative  Input. This pin is normally connected to the negative  terminal of the decoupling capacitor at the remote load.  The DIFF/IN+  and DIFF/IN-  PCB traces should be routed  a(See Datasheet)", 16 DIFF/IN+ (in) "Remote Sense Differential Ampli?er Positive  Input. A low offset, high bandwidth operational ampli?er  is con? gured with four precision 80k resistors for a noninverting gain of one. This pin is normally connect(See Datasheet)", 19 PHASEMODE (in) "The PHASEMODE pin voltage programs the phase relationship between the channel 1 and channel 2 rising TG signals, as well as the phase relationship between the channel 1 TG signal and CLKOUT.", 24 VIN (power) "Main Supply Input. A low ESR ceramic bypass capacitor should be connected between this pin and SGND.", 25 DRVCC (power) "Output of the Internal 6V Low Dropout Regulator (LDO), Supply Pin for the Bottom Gate Drivers and Output of the PMOS EXTVCC Switch. A low ESR (X5R or better) 4.7uF ceramic bypass capacitor should be connected between the (See Datasheet)", 26 PGND (power) "Power Supply Return Path for the Bottom Side Gate Drivers, Connected to the Sources of the Lower Power MOSFETs. PGND should also be connected to the negative terminal of the DRVCC decoupling capacitor as close as possible to (See Datasheet)", 27 EXTVCC (power) "External Power Supply Input to an Internal PMOS Power Switch Connected Between EXTVCC (Drain) and DRVCC (Source). This pin allows an external supply to be used for the high current gate drivers, thereby reducing power (See Datasheet)", 32 CLKOUT (out) "A Digital Output Used for Daisy-Chaining Multiple  LTC3811 ICs in Multiphase Systems. The PHASEMODE  pin voltage controls the phase relationship between the  channel 1 TG signal and CLKOUT", 33 MODE/SYNC (in) "Mode Control and PLL Synchronization Input. This pin programs the operatingmode and serves as the sync input to the internal phase-lock loop (PLL). Connecting this pin to INTVCC forces continuous operation (regardless of the (See Datasheet)", 34 PLL/LPF (in) "Frequency Set and PLL Lowpass Filter Input. When not synchronized, this pin can be used to program the operating frequency. Connecting this pin to SGND forces 250kHz operation and connecting it to INTVCC forces 750kHz (See Datasheet)", 39 EP (power) "The Exposed Pad of the QFN Leadframe is PGND."

## LTC3812EFE-5#PBF
designator U?
Current Mode Synchronous Switching Regulator Controller, 16-pin SOP (FE-16-EPV-BA), -40 to 125 degC, Pb-Free; Manufacturer: Linear Technology; PartNumber: LTC3812EFE-5#PBF; Number of Outputs: 1; PackageReference: FE-16; PackageDescription: 16-Pin Plastic TSSOP, Body 5 x 4.4 mm, Pitch 0.65 mm; Supplier 1: Digi-Key; Supplier Part Number 1: LTC3812EFE-5#PBF-ND; RoHS: TRUE
footprint LT-FE-16-EPV-BA_N (SOP, 16-Leads, Body 5x4.4mm, Pitch 0.65mm, Thermal Pad 2.74x2.74mm, IPC Medium Density)
footprint LT-FE-16-EPV-BA_L (SOP, 16-Leads, Body 5x4.4mm, Pitch 0.65mm, Thermal Pad 2.74x2.74mm, IPC High Density)
footprint LT-FE-16-EPV-BA_M (SOP, 16-Leads, Body 5x4.4mm, Pitch 0.65mm, Thermal Pad 2.74x2.74mm, IPC Low Density)
pins: 1 ION (in) "On-Time Current Input. Tie a resistor from VIN to this pin to set the one-shot timer current and thereby set the switching frequency.", 2 VRNG (in) "Sense Voltage Limit Set. The voltage at this pin sets the nominal sense voltage at maximum output current and can be set from 0.5V to 2V by a resistive divider from INTVCC. The nominal sense voltage defaults to 95mV when (See Datasheet)", 3 PGOOD (oc) "Power Good Output. Open-drain logic output that is pulled to ground when the output voltage is not between +/-10% of the regulation point. The output voltage must be out of regulation for at least 120us before the power good (See Datasheet)", 4 FCB (in) "Pulse-Skipping Mode Enable Pin. This pin provides pulse-skipping mode enable/disable control. Pulling this pin below 0.8V disables pulse-skipping mode operation and forces continuous operation. Pulling this pin above 0.8V (See Datasheet)", 5 ITH "Error Ampli?er Compensation Point and Current Control Threshold. The current comparator threshold increases with control voltage. The voltage ranges from 0V to 2.6V with 1.2V corresponding to zero sense voltage (zer(See Datasheet)", 6 VFB (in) "Feedback Input. Connect VFB through a resistor divider network to VOUT to set the output voltage.", 7 RUN/SS (in) "RUN/Soft-Start Input. For soft-start, a capacitor to ground at this pin sets the ramp rate of the output voltage (approximately 0.6s/uF). Pulling this pin below 1.5V will shut down the LTC3812-5, turn off both of the (See Datasheet)", 8 SGND (power) "Signal Ground. All small-signal components should connect to this ground and eventually connect to PGND at one point.", 9 NDRV (out) "Drive Output for External Pass Device of the Linear Regulator for INTVCC. Connect to the gate of an external NMOS pass device and a pull-up resistor to the input voltage VIN.", 10 EXTVCC (power) "External Driver Supply Voltage. When this voltage exceeds 4.2V, an internal switch connects this pin to INTVCC through an LDO and turns off the external MOSFET connected to NDRV, so that controller and gate drive are drawn (See Datasheet)", 11 INTVCC (power) "Main Supply and Driver Supply Pin. All internal circuits and bottom gate output driver are powered from this pin. INTVCC should be bypassed to SGND and PGND with a low ESR (X5R or better) 1uF capacitor in close proximity to (See Datasheet)", 12 BG (out) "Bottom Gate Drive. The BG pin drives the gate of the bottom N-channel synchronous switch MOSFET. This pin swings from PGND to INTVCC.", 13 PGND (power) "Bottom Gate Return. This pin connects to the source of the pull-down MOSFET in the BG driver and is normally connected to ground.", 14 SW "Switch Node Connection to Inductor and Bootstrap Capacitor. Voltage swing at this pin is from a Schottky diode (external) voltage drop below ground to VIN.", 15 TG (out) "Top Gate Drive. The TG pin drives the gate of the top N-channel synchronous switch MOSFET. The TG driver draws power from the BOOST pin and returns to the SW pin, providing true ? oating drive to the top MOSFET.", 16 BOOST "Top Gate Driver Supply. The BOOST pin supplies power to the ?oating TG driver. BOOST should be bypassed to SW with a low ESR (X5R or better) 0.1uF capacitor. An additional fast recovery Schottky diode from INTVCC to th(See Datasheet)", 17 EP (power) "Ground. The Exposed Pad must be soldered to PCB ground."

## LTC3812EFE-5#TRPBF
designator U?
Current Mode Synchronous Switching Regulator Controller, 16-pin SOP (FE-16-EPV-BA), -40 to 125 degC, Pb-Free, Tape and Reel; Manufacturer: Linear Technology; PartNumber: LTC3812EFE-5#TRPBF; Number of Outputs: 1; PackageReference: FE-16; PackageDescription: 16-Pin Plastic TSSOP, Body 5 x 4.4 mm, Pitch 0.65 mm; Supplier 1: Digi-Key; Supplier Part Number 1: LTC3812EFE-5#TRPBF-ND; RoHS: TRUE
footprint LT-FE-16-EPV-BA_N (SOP, 16-Leads, Body 5x4.4mm, Pitch 0.65mm, Thermal Pad 2.74x2.74mm, IPC Medium Density)
footprint LT-FE-16-EPV-BA_L (SOP, 16-Leads, Body 5x4.4mm, Pitch 0.65mm, Thermal Pad 2.74x2.74mm, IPC High Density)
footprint LT-FE-16-EPV-BA_M (SOP, 16-Leads, Body 5x4.4mm, Pitch 0.65mm, Thermal Pad 2.74x2.74mm, IPC Low Density)
pins: 1 ION (in) "On-Time Current Input. Tie a resistor from VIN to this pin to set the one-shot timer current and thereby set the switching frequency.", 2 VRNG (in) "Sense Voltage Limit Set. The voltage at this pin sets the nominal sense voltage at maximum output current and can be set from 0.5V to 2V by a resistive divider from INTVCC. The nominal sense voltage defaults to 95mV when (See Datasheet)", 3 PGOOD (oc) "Power Good Output. Open-drain logic output that is pulled to ground when the output voltage is not between +/-10% of the regulation point. The output voltage must be out of regulation for at least 120us before the power good (See Datasheet)", 4 FCB (in) "Pulse-Skipping Mode Enable Pin. This pin provides pulse-skipping mode enable/disable control. Pulling this pin below 0.8V disables pulse-skipping mode operation and forces continuous operation. Pulling this pin above 0.8V (See Datasheet)", 5 ITH "Error Ampli?er Compensation Point and Current Control Threshold. The current comparator threshold increases with control voltage. The voltage ranges from 0V to 2.6V with 1.2V corresponding to zero sense voltage (zer(See Datasheet)", 6 VFB (in) "Feedback Input. Connect VFB through a resistor divider network to VOUT to set the output voltage.", 7 RUN/SS (in) "RUN/Soft-Start Input. For soft-start, a capacitor to ground at this pin sets the ramp rate of the output voltage (approximately 0.6s/uF). Pulling this pin below 1.5V will shut down the LTC3812-5, turn off both of the (See Datasheet)", 8 SGND (power) "Signal Ground. All small-signal components should connect to this ground and eventually connect to PGND at one point.", 9 NDRV (out) "Drive Output for External Pass Device of the Linear Regulator for INTVCC. Connect to the gate of an external NMOS pass device and a pull-up resistor to the input voltage VIN.", 10 EXTVCC (power) "External Driver Supply Voltage. When this voltage exceeds 4.2V, an internal switch connects this pin to INTVCC through an LDO and turns off the external MOSFET connected to NDRV, so that controller and gate drive are drawn (See Datasheet)", 11 INTVCC (power) "Main Supply and Driver Supply Pin. All internal circuits and bottom gate output driver are powered from this pin. INTVCC should be bypassed to SGND and PGND with a low ESR (X5R or better) 1uF capacitor in close proximity to (See Datasheet)", 12 BG (out) "Bottom Gate Drive. The BG pin drives the gate of the bottom N-channel synchronous switch MOSFET. This pin swings from PGND to INTVCC.", 13 PGND (power) "Bottom Gate Return. This pin connects to the source of the pull-down MOSFET in the BG driver and is normally connected to ground.", 14 SW "Switch Node Connection to Inductor and Bootstrap Capacitor. Voltage swing at this pin is from a Schottky diode (external) voltage drop below ground to VIN.", 15 TG (out) "Top Gate Drive. The TG pin drives the gate of the top N-channel synchronous switch MOSFET. The TG driver draws power from the BOOST pin and returns to the SW pin, providing true ? oating drive to the top MOSFET.", 16 BOOST "Top Gate Driver Supply. The BOOST pin supplies power to the ?oating TG driver. BOOST should be bypassed to SW with a low ESR (X5R or better) 0.1uF capacitor. An additional fast recovery Schottky diode from INTVCC to th(See Datasheet)", 17 EP (power) "Ground. The Exposed Pad must be soldered to PCB ground."